# EAGLE library part PROP-MINI (library Microcontrollers)
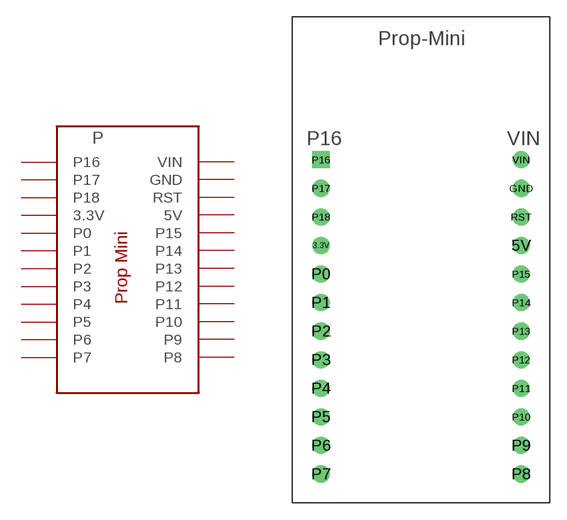
[diagram p0: symbol with the pads of PROP-MINI; footprint PROP-MINI]

Designator prefix P

## PROP-MINI  [PROP-MINI]
3.3V  3.3V
5V  5V
GND  GND
P0  P0
P1  P1
P2  P2
P3  P3
P4  P4
P5  P5
P6  P6
P7  P7
P8  P8
P9  P9
P10  P10
P11  P11
P12  P12
P13  P13
P14  P14
P15  P15
P16  P16
P17  P17
P18  P18
RST  RST
VIN  VIN

## Footprint PROP-MINI (pad centres in mm)
drill 1.016: 3.3V -8.89,6.35; 5V 8.89,6.35; GND 8.89,11.43; P0 -8.89,3.81; P1 -8.89,1.27; P2 -8.89,-1.27; P3 -8.89,-3.81; P4 -8.89,-6.35; P5 -8.89,-8.89; P6 -8.89,-11.43; P7 -8.89,-13.97; P8 8.89,-13.97; P9 8.89,-11.43; P10 8.89,-8.89; P11 8.89,-6.35; P12 8.89,-3.81; P13 8.89,-1.27; P14 8.89,1.27; P15 8.89,3.81; P17 -8.89,11.43; P18 -8.89,8.89; RST 8.89,8.89; VIN 8.89,13.97
drill 1.016 square: P16 -8.89,13.97